# Altium schematic symbol library BUF_Non_Invert_5_5V_SN74LVC1G07DBVR.SchLib: 2 symbols
Pins are listed as number, name and electrical type; pins without a type are passive.

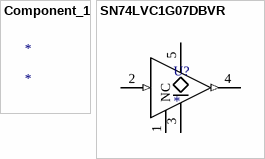
[diagram p0: symbols Component_1 to SN74LVC1G07DBVR]

## Component_1
designator *

## SN74LVC1G07DBVR
designator U?
No Description Available; Mfr_Name: Texas Instruments; PartNumber: SN74LVC1G07DBVR; Alternate_PartNumber: SN74LVC1G07DBVT; CompType: IC; TYPE: TYPE; RefDes: RefDes; Application_BuildNumber: *; PackageReference: DBV0005A; MountType: SMT; RoHS: Y; Manufacturer: Texas Instruments
footprint DBV0005A_N
pins: 1 NC, 2 A (in), 3 GND (power), 4 Y (out), 5 VCC (power)